# Altium footprint library TPS51225RUKR.PcbLib: 1 footprints
Each footprint in its own frame and in the unit in brackets; x right, y up, seen from the top. Pads: shape width x height; smd on the part's side, far side on the other; paste and mask are expansions set on the pad; w line width, h text height; cw(c..) or ccw(c..) is an arc to the next point about the centre after c.
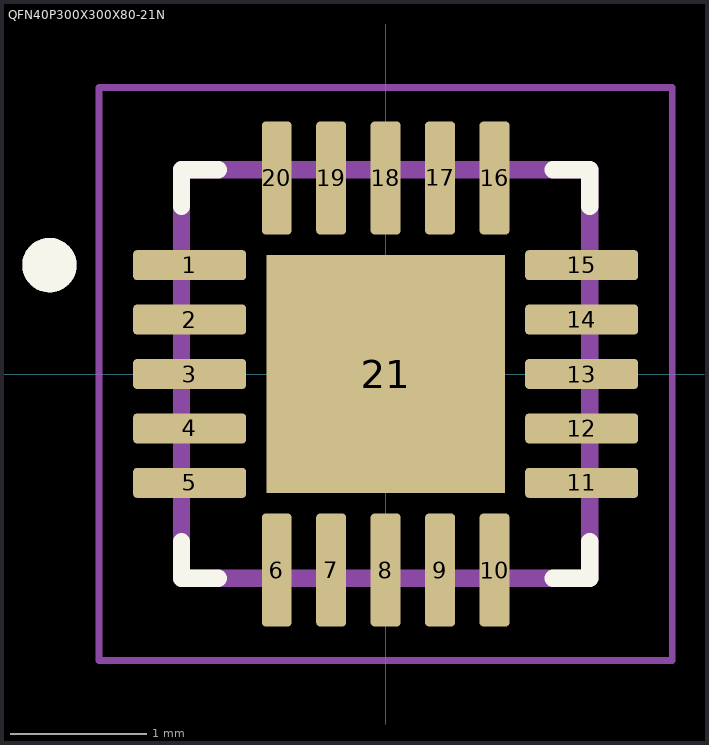
[diagram p0: the footprint, top view; thin cyan lines are the x and y axes]

## QFN40P300X300X80-21N [mm]
pads (21):
  rrect25% 0.83x0.22 smd: 1(-1.44,0.8) 2(-1.44,0.4) 3(-1.44,0) 4(-1.44,-0.4) 5(-1.44,-0.8) 11(1.44,-0.8) 12(1.44,-0.4) 13(1.44,0) 14(1.44,0.4) 15(1.44,0.8)
  rrect25% 0.22x0.83 smd: 6(-0.8,-1.44) 7(-0.4,-1.44) 8(0,-1.44) 9(0.4,-1.44) 10(0.8,-1.44) 16(0.8,1.44) 17(0.4,1.44) 18(0,1.44) 19(-0.4,1.44) 20(-0.8,1.44)
  rect 1.75x1.75 smd paste-0.325: 21(0,0)
Top Overlay:
  circle w0.2: c-2.47,0.8 r0.1
  lines w0.127: -1.5,-1.23 -1.5,-1.5 -1.23,-1.5 ; -1.5,1.23 -1.5,1.5 -1.23,1.5 ; 1.23,-1.5 1.5,-1.5 1.5,-1.23 ; 1.23,1.5 1.5,1.5 1.5,1.23
Mechanical 13:
  circle w0.2: c-2.47,0.8 r0.1
  lines w0.127: -1.5,-1.5 -1.5,1.5 1.5,1.5 1.5,-1.5 -1.5,-1.5
Mechanical 15:
  lines w0.05: -2.105,-2.105 -2.105,2.105 2.105,2.105 2.105,-2.105 -2.105,-2.105
3D body "step_temp.STEP": height 0.8, standoff 0, extent -1.5,-1.5 1.5,1.5